# Altium integrated library BuckConverter.IntLib: 22 symbols
Pins are listed as number, name and electrical type; pins without a type are passive.

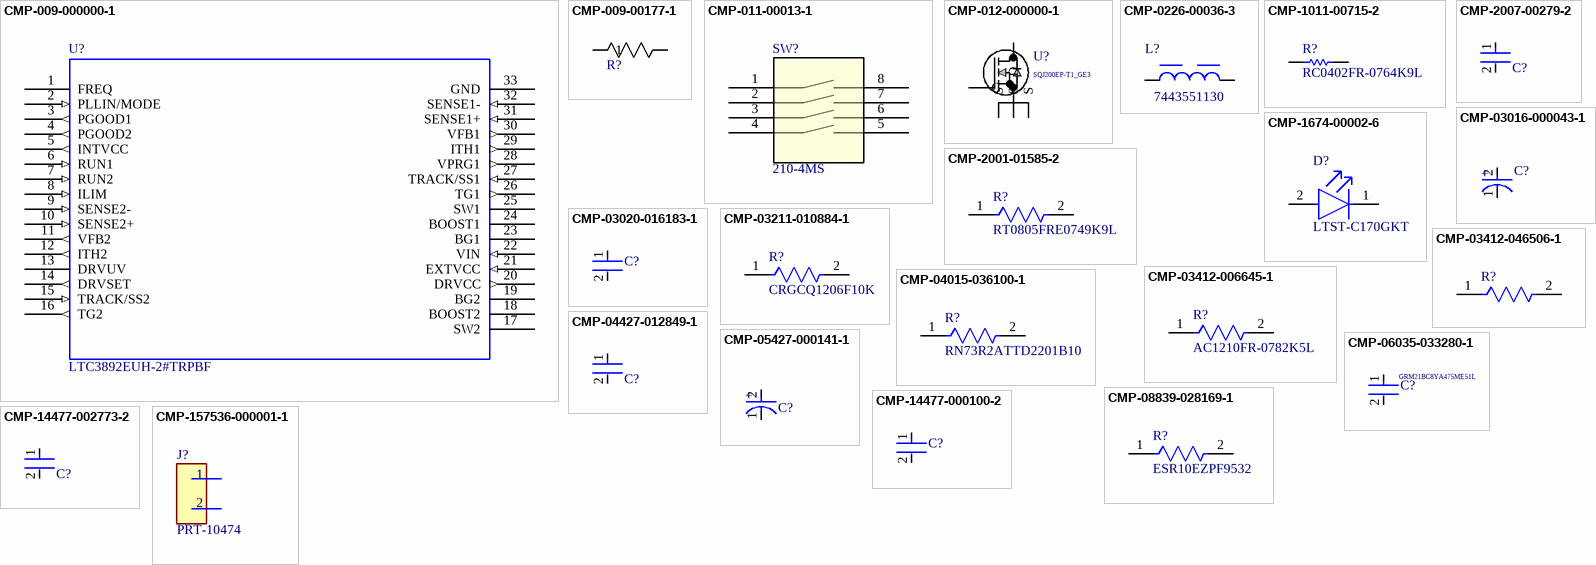
[diagram p0: symbols CMP-009-000000-1 to CMP-157536-000001-1]

## CMP-009-000000-1
designator U?, comment LTC3892EUH-2#TRPBF
MF: {'manufacturer': u'Analog Devices Inc.'}; Package: None; Value: *; Availability: Unavailable; Pin Count: 33; MP: LTC3892EUH-2#TRPBF; Design Item ID: LTC3892EUH-2#TRPBF; Price: None; Source: LTC3892EUH-2#TRPBF.SchLib; Component Type: Standard
footprint QFN-32_UH
pins: 1 FREQ, 2 PLLIN/MODE (in), 3 PGOOD1 (out), 4 PGOOD2 (out), 5 INTVCC (out), 6 RUN1 (in), 7 RUN2 (in), 8 ILIM (in), 9 SENSE2- (in), 10 SENSE2+ (in), 11 VFB2 (out), 12 ITH2 (out), 13 DRVUV, 14 DRVSET (out), 15 TRACK/SS2 (in), 16 TG2 (out), 17 SW2, 18 BOOST2, 19 BG2, 20 DRVCC (out), 21 EXTVCC (in), 22 VIN (in), 23 BG1, 24 BOOST1, 25 SW1, 26 TG1 (out), 27 TRACK/SS1 (in), 28 VPRG1 (out), 29 ITH1 (out), 30 VFB1 (out), 31 SENSE1+ (in), 32 SENSE1- (in), 33 GND (power)

## CMP-009-00177-1
designator R?, comment TLR3A20KR0025FTDG  (value not drawn)
TLR 2512 2.0W R0025 1% 150PPM 2K RL; Manufacturer_Name: TE Connectivity; Type: Chip Resistor - Surface Mount; Source: TLR3A20KR0025FTDG.SchLib; Design Item ID: TLR3A20KR0025FTDG; Copyright: Copyright (C) 2025 Ultra Librarian. All rights reserved.; Manufacturer_Part_Number: TLR3A20KR0025FTDG
footprint RES_TLR3A20KR0025FTDG_TEC
pins: 1, 2

## CMP-011-00013-1
designator SW?, comment 210-4MS
Description; Manufacturer_Name: CTS Components; Type: DIP Switches; Copyright: Copyright (C) 2025 Ultra Librarian. All rights reserved.; Design Item ID: 210-4MS; RefDes: RefDes; Source: 210-4MS.SchLib; Manufacturer_Part_Number: 210-4MS
footprint DIP8_210-4_CTS
pins: 1, 2, 3, 4, 5, 6, 7, 8

## CMP-012-000000-1
designator U?, comment SQJ200EP-T1_GE3
DUAL N-CHANNEL 20-V (D-S) 175C MOSFET; Manufacturer_Name: Vishay; Source: SQJ200EP-T1_GE3.SchLib; Datasheet: https://www.vishay.com/doc?67774; Copyright: Copyright (C) 2026 Ultra Librarian. All rights reserved.; Manufacturer_Part_Number: SQJ200EP-T1_GE3; Design Item ID: SQJ200EP-T1_GE3
footprint TO_200EP-T1_GE3_VIS
pins: 1 S, 2 S, 3 S, 4 G, 5 D

## CMP-0226-00036-3
designator L?, comment 7443551130
Power Choke Shielded Wirewound 1.3uH/0.9uH 20% 100KHz 25A 1.8mOhm DCR T/R; Inductance: 1.3µH; Saturation Current: 11A; Resistance: 1.8mΩ; Self Resonant Frequency: 59MHz; Height: 6.2mm; Max Operating Temperature: 155°C; Mount: Surface Mount; Case/Package: Nonstandard; Width: 12.8mm; Test Frequency: 100kHz; RoHS: Compliant; Shielding: Shielded; Ambient Temperature Range Low: -40°C; Inductance Tolerance: 20%; Height - Seated (Max): 6.5024mm; Termination: SMD/SMT; Current Rating: 25A; Tolerance: 20%; Number of Pins: 2; DC Resistance (DCR): 1.8mΩ; Max DC Current: 25A; Series Resistance: 1.8mΩ; Length: 13.2mm; REACH SVHC: Unknown; Ambient Temperature Range High: 105°C; Min Operating Temperature: -40°C; RMS Current (Irms): 25A; Composition: Wirewound
footprint WE-HCI_1365
pins: 1, 2

## CMP-1011-00715-2
designator R?, comment RC0402FR-0764K9L
Manufacturer: Yageo / Phycomp; Part Number: RC0402FR-0764K9L
footprint RESC1005X40X25LL05T10 (Chip Resistor, 2-Leads, Body 1.00x0.50mm, IPC High Density)
footprint RESC1005X40X25NL05T10 (Chip Resistor, 2-Leads, Body 1.00x0.50mm, IPC Medium Density)
footprint RESC1005X40X25ML05T10 (Chip Resistor, 2-Leads, Body 1.00x0.50mm, IPC Low Density)
pins: 1, 2
1 alternate drawing of the same symbol

## CMP-1674-00002-6
designator D?, comment LTST-C170GKT
LED GREEN CLEAR SMD; Dominant Wavelength: 569nm; Lens Style: Diffused; Forward Voltage: 2.1V; Number of Elements: 1; Wavelength: 565nm; Luminous Intensity: 6mcd; Test Current: 10mA; Power Dissipation: 100mW; Reverse Voltage: 5V; Forward Current: 30mA; Viewing Angle: 130°; Lens Color: Colorless; Min Operating Temperature: -55°C; Number of Pins: 2; Max Operating Temperature: 85°C; Color: Green; Radiation Hardening: No; Illumination Color: Green; Case Code (Metric): 2012; Lens Transparency: Clear; Case/Package: 0805; Width: 1.25mm; Case Code (Imperial): 0805; Package Quantity: 1; Height: 1.1mm; Depth: 1.25mm; Length: 2mm; Power Rating: 100mW; Lead Free: Lead Free; Number of LEDs: 1; Packaging: Tape and Reel; Mount: Surface Mount; Voltage: 5V
footprint FP-LTST-C170GKT-MFG
pins: 1 C, 2 A

## CMP-2001-01585-2
designator R?, comment RT0805FRE0749K9L
RES SMD 49.9K OHM 1% 1/8W 0805; Manufacturer: Yageo; Tolerance: 0.0001; Resistance: 49.9KΩ; Voltage Rating: 150V; Value: 49.9KΩ; Temperature Coefficient: 50 ppm/°C; Power Rating: 0.125W; Footprint Url: http://www.yageo.com/exep/pages/download/literatures/PYu-R_Mount_10.pdf; Temperature Range High: +155°C; Device Class L2: Resistors; Automotive: No; Mouser Description: Thin Film Resistors - SMD 1/8W 49.9K ohm 1% 50ppm; Temperature Range Low: -55°C; Device Class L3: Chip SMD Resistors; Category: Res; Composition: Thin Film; Temperature: -55°C to +155°C; ComponentLink2Description: Datasheet; RoHS: TRUE; ComponentLink2URL: http://www.yageo.com/documents/recent/PYu-RT_1-to-0.01_RoHS_L_9.pdf; Height: 0.6mm; Series: RT; Ipc Land Pattern Name: RESC200125X50; Digikey Description: RES SMD 49.9K OHM 1% 1/8W 0805; Device Class L1: Passive Components; Octopart: https://octopart.com/rt0805fre0749k9l-yageo-1391654; Package: RT0805; Lead Free: Yes; Manufacturer Part Number: RT0805FRE0749K9L
footprint FP-RT0805-MFG
footprint FP-RT0805-IPC_C
footprint FP-RT0805-IPC_B
footprint FP-RT0805-IPC_A
pins: 1, 2

## CMP-2007-00279-2
designator C?, comment C0805C104K5RACTU  (value not drawn)
CAP CER 0.1UF 50V X7R 0805; Manufacturer: KEMET; Value: 0.10 μF; Tolerance: 0.1; Temperature Coefficient: 30ppm/°C; Material: Ceramic; Manufacturer Part Number: C0805C104K5RACTU; Device Class L2: Capacitors; Temperature Range Low: -55°C; Voltage Rating: 50 V; Digikey Description: CAP CER 0.1UF 50V X7R 0805; Category: Cap; ComponentLink2Description: Datasheet; Octopart: https://octopart.com/c0805c104k5ractu-kemet-143926; RoHS: TRUE; ComponentLink2URL: https://content.kemet.com/datasheets/KEM_C1003_C0G_SMD.pdf; Temperature Characteristic: X7R; Temperature: -55°C to +125°C; Height: 0.88mm; Temperature Range High: +125°C; Device Class L1: Passive Components; Automotive: No; Lead Free: Yes; Ipc Land Pattern Name: CAPC200125X78; Device Class L3: Ceramic Capacitors; Mouser Description: Cap Ceramic 0.1uF 50V X7R 10% SMD 2.0 x 1.2 mm 125 C Paper T/R; Capacitance: 0.10 μF; Package: C0805C-DN
footprint FP-C0805C-DN-MFG
footprint FP-C0805C-DN-IPC_C
footprint FP-C0805C-DN-IPC_B
footprint FP-C0805C-DN-IPC_A
pins: 1, 2

## CMP-03016-000043-1
designator C?, comment A768KS337M1ELAE019  (value not drawn)
CAP ALUM POLY 330UF 20% 25V SMD
footprint FP-A768KS337M1ELAE019-MFG
pins: 1 C, 2 A
text: +

## CMP-03020-016183-1
designator C?, comment C0603C102F4GACTU  (value not drawn)
CAP CER 1000PF 16V NP0 0603; Manufacturer: KEMET; Tolerance: 0.01; Temperature Coefficient: 30ppm/°C; Temperature Characteristic: C0G; Value: 1,000 pF; Material: Ceramic; Automotive Grade: Grade 1; Manufacturer Part Number: C0603C102F4GACTU; Automotive: Yes; Temperature Range Low: -55°C; Device Class L2: Capacitors; Octopart: https://octopart.com/c0603c102f4gactu-kemet-17138174; Temperature: -55°C to +125°C; Lead Free: Yes; RoHS: TRUE; Device Class L3: Ceramic Capacitors; Temperature Range High: +125°C; Digikey Description: CAP CER 1000PF 16V NP0 0603; Height: 0.87mm; Package: C0603C-CF; Capacitance: 1,000 pF; ComponentLink2URL: https://api.kemet.com/component-edge/download/datasheet/C0603C100J5GACAUTO.pdf; ComponentLink2Description: Datasheet; Voltage Rating: 16 V; Device Class L1: Passive Components; Mouser Description: Capacitor, Ceramic, 1Nf, 16Vdc, 1-% Tol, 1+% Tol, C0g-Tc Code, -30, 30Ppm-Tc Rohs Compliant: Yes; Category: Cap
footprint FP-C0603C-CF-MFG
footprint FP-C0603C-CF-IPC_C
footprint FP-C0603C-CF-IPC_B
footprint FP-C0603C-CF-IPC_A
pins: 1, 2

## CMP-03211-010884-1
designator R?, comment CRGCQ1206F10K
CRGCQ1206 10KΩ 0.25W 1% ±100ppm/°C 200V; Manufacturer: TE Connectivity; Tolerance: 0.01; Automotive Grade: Grade 913; Value: 10KΩ; Automotive: Yes; Temperature: -55°C to +155°C; RoHS: TRUE; Series: CRGCQ; Lead Free: Yes; Device Class L3: Chip SMD Resistors; Package: CRGCQ1206; ComponentLink2URL: https://www.te.com/commerce/DocumentDelivery/DDEController?Action=showdoc&DocId=Data+Sheet%7F1773204-3%7F1%7Fpdf%7FEnglish%7FENG_DS_1773204-3_1.pdf%7F4-2176347-922; Ipc Land Pattern Name: RESC310155X55; Composition: Thick Film; Voltage Rating: 200V; Device Class L1: Passive Components; Temperature Range Low: -55°C; Resistance: 10KΩ; Height: 0.65mm; Power Rating: 0.25W; Device Class L2: Resistors; Temperature Range High: +155°C; Octopart: https://octopart.com/crgcq1206f10k-te+connectivity-91018244; Ambient Temperature Range High: +70°C; ComponentLink2Description: Datasheet; Temperature Coefficient: ±100ppm/°C; Manufacturer Part Number: CRGCQ1206F10K; Category: Res
footprint FP-CRGCQ1206-IPC_C
footprint FP-CRGCQ1206-IPC_B
footprint FP-CRGCQ1206-IPC_A
pins: 1, 2

## CMP-03412-006645-1
designator R?, comment AC1210FR-0782K5L
RES SMD 82.5K OHM 1% 1/2W 1210; Manufacturer: Yageo; Power Rating: 0.5W; Tolerance: 0.01; Value: 82.5KΩ; Voltage Rating: 200V; Automotive Grade: Grade 0; Temperature: -55°C to +155°C; Manufacturer Part Number: AC1210FR-0782K5L; Footprint Url: http://www.yageo.com/exep/pages/download/literatures/PYu-R_Mount_9.pdf; Lead Free: Yes; Series: AC; Ipc Land Pattern Name: RESC310260X55; Octopart: https://octopart.com/ac1210fr-0782k5l-yageo-71368823; Temperature Range Low: -55°C; Package: AC1210; Device Class L3: Chip SMD Resistors; RoHS: TRUE; Temperature Range High: +155°C; ComponentLink2Description: Datasheet; Composition: Thick Film; Resistance: 82.5KΩ; Category: Res; ComponentLink2URL: http://www.yageo.com/NewPortal/yageodocoutput?fileName=/pdf/R-Chip/PYu-AC_51_RoHS_L_6.pdf; Automotive: Yes; Digikey Description: RES SMD 82.5K OHM 1% 1/2W 1210; Height: 0.65mm; Device Class L1: Passive Components; Device Class L2: Resistors
footprint FP-AC1210-MFG
footprint FP-AC1210-IPC_C
footprint FP-AC1210-IPC_B
footprint FP-AC1210-IPC_A
pins: 1, 2

## CMP-03412-046506-1
designator R?, comment AC0603JR-077K5L  (value not drawn)
RES 7.5kΩ 5.00% 0.1W 0603; Max Power Dissipation: 100mW; Tolerance: 5%; Temperature Coefficient: 100ppm/°C; Resistance: 7.5kR; Voltage Rating: 50V; Height: 0.022inch; Termination: SMD/SMT; Case Code (Metric): 1608; Case Code (Imperial): 0603; Min Operating Temperature: -55°C; Length: 0.063inch; Width: 0.8mm; Packaging: Tape and Reel; Max Operating Temperature: 155°C; Resistor Type: Thick Film; Features: Moisture Resistant; Number of Terminations: 2; Case/Package: 0603; Power Rating: 100mW; RoHS Compliant: Yes; Series: AC
footprint FP-AC0603-MFG
footprint FP-AC0603-IPC_A
footprint FP-AC0603-IPC_C
footprint FP-AC0603-IPC_B
pins: 1, 2

## CMP-04015-036100-1
designator R?, comment RN73R2ATTD2201B10
2.2kΩ ±0.1% 0.125W, 1/8W Chip Resistor 0805 (2012 Metric) Moisture Resistant Thin Film
footprint FP-RN73R2A-IPC_B
footprint FP-RN73R2A-IPC_C
footprint FP-RN73R2A-IPC_A
footprint FP-RN73R2A-MFG
pins: 1, 2

## CMP-04427-012849-1
designator C?, comment 08051C224K4T2A  (value not drawn)
Automotive Ceramic Capacitor, 0805, 220nF, 10%, X7R, 15%, 100V; Capacitance: 220nF; Voltage Rating (DC): 100V; Dielectric: X7R; Length: 2.01mm; Contact Plating: Tin; Termination: Wraparound; Case/Package: 0805; RoHS Compliant: Yes; Tolerance: 10%; Max Operating Temperature: 125°C; Min Operating Temperature: -55°C; Mount: Surface Mount
footprint FP-0805-L_2_01_0_2-W_1_25-MFG
footprint FP-0805-L_2_01_0_2-W_1_25-IPC_A
footprint FP-0805-L_2_01_0_2-W_1_25-IPC_B
footprint FP-0805-L_2_01_0_2-W_1_25-IPC_C
pins: 1, 2

## CMP-05427-000141-1
designator C?, comment ECA1EHG101I  (value not drawn)
Aluminum Electrolytic Capacitors (Radial Lead Type) AEC-Q200 Qualified 100uF ±20% 25V; Lead Diameter: 0.5mm; Life (Hours): 1000Hour; Ripple Current: 130mA; Lead/Base Style: Straight; Construction: RADIAL; Radiation Hardening: No; Packaging: Ammo Pack; Termination: Radial; Mount: Through Hole; Lead Pitch: 2.5mm; Tolerance: 20%; Height - Seated (Max): 0.48inch; Height: 11.2mm; Max Operating Temperature: 105°C; Length: 11.2mm; Diameter: 6.3mm; RoHS Compliant: Yes; Voltage Rating: 25V; Min Operating Temperature: -55°C; Package Quantity: 2000; Capacitance: 100uF; Width: 6.3mm; Voltage Rating (DC): 25V; Series: NHG; Contact Plating: Tin; Case/Package: Radial
footprint FP-RAD-TH-D_6_3_0_5-L_11-MFG
pins: 1 C, 2 A
text: +

## CMP-06035-033280-1
designator C?, comment GRM21BC8YA475ME51L
Chip Multilayer Ceramic Capacitors for General Purpose, 0805, 4.7uF, X6S, 22%, 20%, 35V; Length: 2mm; Dielectric: X6S; Width: 1.25mm; Capacitance: 4.7uF; Case/Package: 0805; Tolerance: 20%; Voltage Rating (DC): 35V; Thickness: 1.25mm
footprint FP-GRM21B-0_15-IPC_A
footprint FP-GRM21B-0_15-IPC_C
footprint FP-GRM21B-0_15-IPC_B
footprint FP-GRM21B-0_15-MFG
pins: 1, 2

## CMP-08839-028169-1
designator R?, comment ESR10EZPF9532
95.3kΩ ±1% 0.4W 0805 Anti-Surge Chip Resistor AEC-Q200; Max Power Dissipation: 400mW; Temperature Coefficient: 100ppm/°C; Resistance: 95.3kR; Packaging: Tape and Reel; Package Quantity: 5000; Series: ESR10; Features: Automotive AEC-Q200; Length: 0.079inch; Min Operating Temperature: -55°C; RoHS Compliant: Yes; Height: 0.026inch; Max Operating Temperature: 155°C; Width: 0.049inch; Case/Package: 0805; Number of Terminations: 2; Resistor Type: Thick Film; Tolerance: 1%
footprint FP-ESR10-MFG
footprint FP-ESR10-IPC_A
footprint FP-ESR10-IPC_C
footprint FP-ESR10-IPC_B
pins: 1, 2

## CMP-14477-000100-2
designator C?, comment TMK316BBJ226ML-T  (value not drawn)
None; Capacitance: 22uF; Voltage Rating (DC): 25V; Tolerance: 20%; Dielectric: X5R; Resistor Type: Ceramic; Length: 3.2mm; RoHS Compliant: Yes; Case Code (Metric): 3216; Halogen Free: Halogen Free; Series: M; Termination: SMD/SMT; Voltage Rating: 25V; Packaging: Tape and Reel; Case Code (Imperial): 1206; Width: 0.063inch; Height: 1.6mm; Thickness: 0.075inch; Min Operating Temperature: -55°C; Case/Package: 1206; Mount: Surface Mount; Max Operating Temperature: 85°C; Weight: 0.000571oz; Construction: Flat; Package Quantity: 2000
footprint FP-1206-L_3_2_0_3-W_1_6_0-MFG
footprint FP-1206-L_3_2_0_3-W_1_6_0-IPC_B
footprint FP-1206-L_3_2_0_3-W_1_6_0-IPC_C
footprint FP-1206-L_3_2_0_3-W_1_6_0-IPC_A
pins: 1, 2

## CMP-14477-002773-2
designator C?, comment TMK107ABJ225MA-T  (value not drawn)
None; Dielectric: X5R; Tolerance: 20%; Voltage: 25V; Capacitance: 2.2uF; Max Operating Temperature: 85°C; Depth: 0.8mm; RoHS Compliant: Yes; Length: 1.6mm; Lead Free: Lead Free; Min Operating Temperature: -55°C; Mount: Surface Mount; Height: 0.8mm; Case/Package: 0603
footprint FP-0603-L_1_6_0_15-W_0_8-IPC_C
footprint FP-0603-L_1_6_0_15-W_0_8-IPC_A
footprint FP-0603-L_1_6_0_15-W_0_8-IPC_B
footprint FP-0603-L_1_6_0_15-W_0_8-MFG
pins: 1, 2

## CMP-157536-000001-1
designator J?, comment PRT-10474
XT60 CONNECTORS MALE/FEMALE PAIR
footprint FP-PRT-10474-MFG
text: 1; 2